# EAGLE library part KEYPAD (library chipdesign2016)
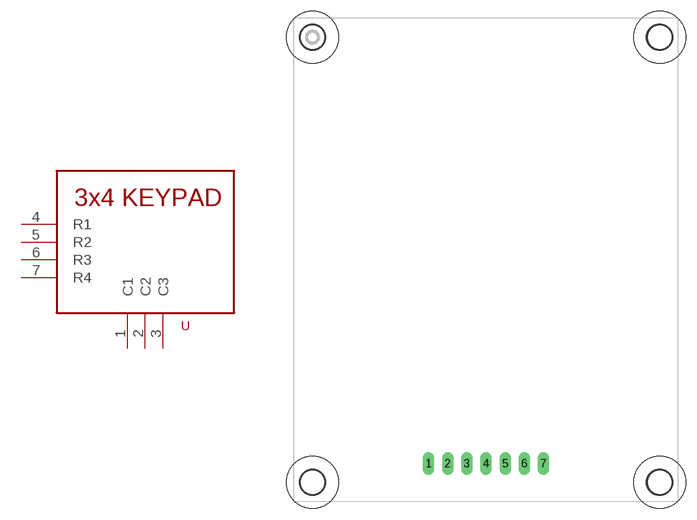
[diagram p3: symbol with the pads of KEYPAD; footprint KEYPAD]

Designator prefix -

## KEYPAD  [KEYPAD]
1  C1
2  C2
3  C3
4  R1
5  R2
6  R3
7  R4

## Footprint KEYPAD (pad centres in mm)
drill 1.016 long: 1 -7.62,-27; 2 -5.08,-27; 3 -2.54,-27; 4 0,-27; 5 2.54,-27; 6 5.08,-27; 7 7.62,-27
hole 3.2 at -23,29.5
hole 3.2 at 23,29.5
hole 3.2 at -23,-29.5
hole 3.2 at 23,-29.5